# Altium schematic symbol library UCC28700DBVR.SchLib: 1 symbol
Pins are listed as number, name and electrical type; pins without a type are passive.

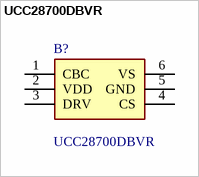
[diagram p0: symbol UCC28700DBVR]

## UCC28700DBVR
designator B?
AC/DC Converters Constant-Vltg,Const Crnt PWM; Manufacturer_Name: Texas Instruments; Geometry.Height: 1.45mm; Manufacturer_Part_Number: UCC28700DBVR; Mouser Part Number: 595-UCC28700DBVR; Mouser Price/Stock: https://www.mouser.co.uk/ProductDetail/Texas-Instruments/UCC28700DBVR?qs=4whTb%2F0XQMg%2F4HS0qLcYUw%3D%3D; Arrow Part Number: UCC28700DBVR; Arrow Price/Stock: https://www.arrow.com/en/products/ucc28700dbvr/texas-instruments?region=nac; Datasheet Link: http://www.ti.com/general/docs/suppproductinfo.tsp?distId=10&gotoUrl=http%3A%2F%2Fwww.ti.com%2Flit%2Fgpn%2Fucc28700
footprint SOT95P280X145-6N
pins: 1 CBC, 2 VDD, 3 DRV, 4 CS, 5 GND, 6 VS